# Altium schematic symbol library 691 337 500 0xx.SchLib: 7 symbols
Pins are listed as number, name and electrical type; pins without a type are passive.

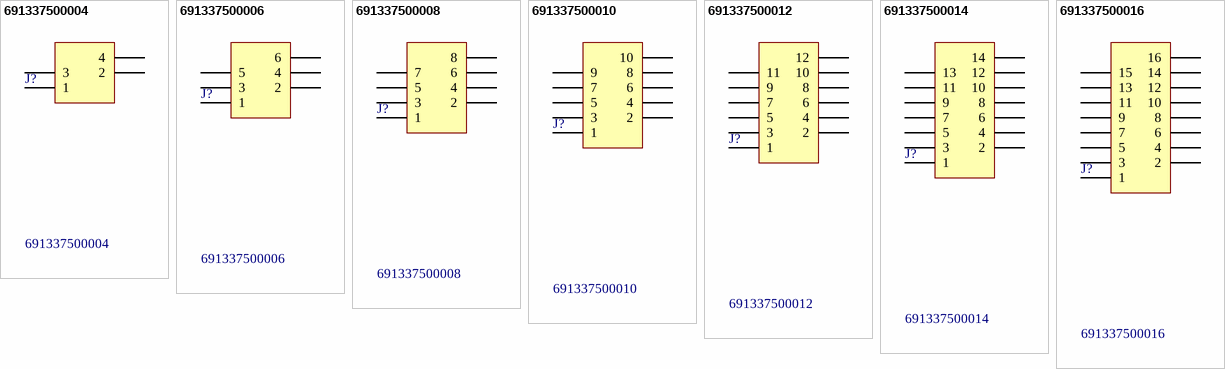
[diagram p0: symbols 691337500004 to 691337500016]

## 691337500004
designator J?
WR-TBL Terminal Blocks Serie 3375 - 5.08 mm with Flanges & Nut Type; Manufacturer: Würth Elektronik eiSos GmbH; ComponentLink1 Description: Manufacturer; ComponentLink2 Description: Datasheet; NoPins: 04; Created Date: 31 March 2014; partNo: 691337500004; ComponentLink1URL: http://www.we-online.com; ComponentLink2URL: http://katalog.we-online.de/em/datasheet/6913375000xx.pdf; Created by: Karrer Zheng; Value: 691337500004
footprint 691337500004 (5,08mm - PCB - Dual row - Staggered - Vertical - Flanges - 04p)
pins: 1, 2, 3, 4

## 691337500006
designator J?
WR-TBL Terminal Blocks Serie 3375 - 5.08 mm with Flanges & Nut Type; Manufacturer: Würth Elektronik eiSos GmbH; ComponentLink1 Description: Manufacturer; ComponentLink2 Description: Datasheet; NoPins: 06; Created Date: 31 March 2014; partNo: 691337500006; ComponentLink1URL: http://www.we-online.com; ComponentLink2URL: http://katalog.we-online.de/em/datasheet/6913375000xx.pdf; Created by: Karrer Zheng; Value: 691337500006
footprint 691337500006 (5,08mm - PCB - Dual row - Staggered - Vertical - Flanges - 06p)
pins: 1, 2, 3, 4, 5, 6

## 691337500008
designator J?
WR-TBL Terminal Blocks Serie 3375 - 5.08 mm with Flanges & Nut Type; Manufacturer: Würth Elektronik eiSos GmbH; ComponentLink1 Description: Manufacturer; ComponentLink2 Description: Datasheet; NoPins: 08; Created Date: 31 March 2014; partNo: 691337500008; ComponentLink1URL: http://www.we-online.com; ComponentLink2URL: http://katalog.we-online.de/em/datasheet/6913375000xx.pdf; Created by: Karrer Zheng; Value: 691337500008
footprint 691337500008 (5,08mm - PCB - Dual row - Staggered - Vertical - Flanges - 08p)
pins: 1, 2, 3, 4, 5, 6, 7, 8

## 691337500010
designator J?
WR-TBL Terminal Blocks Serie 3375 - 5.08 mm with Flanges & Nut Type; Manufacturer: Würth Elektronik eiSos GmbH; ComponentLink1 Description: Manufacturer; ComponentLink2 Description: Datasheet; NoPins: 10; Created Date: 31 March 2014; partNo: 691337500010; ComponentLink1URL: http://www.we-online.com; ComponentLink2URL: http://katalog.we-online.de/em/datasheet/6913375000xx.pdf; Created by: Karrer Zheng; Value: 691337500010
footprint 691337500010 (5,08mm - PCB - Dual row - Staggered - Vertical - Flanges - 10p)
pins: 1, 2, 3, 4, 5, 6, 7, 8, 9, 10

## 691337500012
designator J?
WR-TBL Terminal Blocks Serie 3375 - 5.08 mm with Flanges & Nut Type; Manufacturer: Würth Elektronik eiSos GmbH; ComponentLink1 Description: Manufacturer; ComponentLink2 Description: Datasheet; NoPins: 12; Created Date: 31 March 2014; partNo: 691337500012; ComponentLink1URL: http://www.we-online.com; ComponentLink2URL: http://katalog.we-online.de/em/datasheet/6913375000xx.pdf; Created by: Karrer Zheng; Value: 691337500012
footprint 691337500012 (5,08mm - PCB - Dual row - Staggered - Vertical - Flanges - 12p)
pins: 1, 2, 3, 4, 5, 6, 7, 8, 9, 10, 11, 12

## 691337500014
designator J?
WR-TBL Terminal Blocks Serie 3375 - 5.08 mm with Flanges & Nut Type; Manufacturer: Würth Elektronik eiSos GmbH; ComponentLink1 Description: Manufacturer; ComponentLink2 Description: Datasheet; NoPins: 14; Created Date: 31 March 2014; partNo: 691337500014; ComponentLink1URL: http://www.we-online.com; ComponentLink2URL: http://katalog.we-online.de/em/datasheet/6913375000xx.pdf; Created by: Karrer Zheng; Value: 691337500014
footprint 691337500014 (5,08mm - PCB - Dual row - Staggered - Vertical - Flanges - 14p)
pins: 1, 2, 3, 4, 5, 6, 7, 8, 9, 10, 11, 12, 13, 14

## 691337500016
designator J?
WR-TBL Terminal Blocks Serie 3375 - 5.08 mm with Flanges & Nut Type; Manufacturer: Würth Elektronik eiSos GmbH; ComponentLink1 Description: Manufacturer; ComponentLink2 Description: Datasheet; NoPins: 16; Created Date: 31 March 2014; partNo: 691337500016; ComponentLink1URL: http://www.we-online.com; ComponentLink2URL: http://katalog.we-online.de/em/datasheet/6913375000xx.pdf; Created by: Karrer Zheng; Value: 691337500016
footprint 691337500016 (5,08mm - PCB - Dual row - Staggered - Vertical - Flanges - 16p)
pins: 1, 2, 3, 4, 5, 6, 7, 8, 9, 10, 11, 12, 13, 14, 15, 16